# Altium integrated library WE-PDA_rev15a.intlib: 63 symbols
Pins are listed as number, name and electrical type; pins without a type are passive.

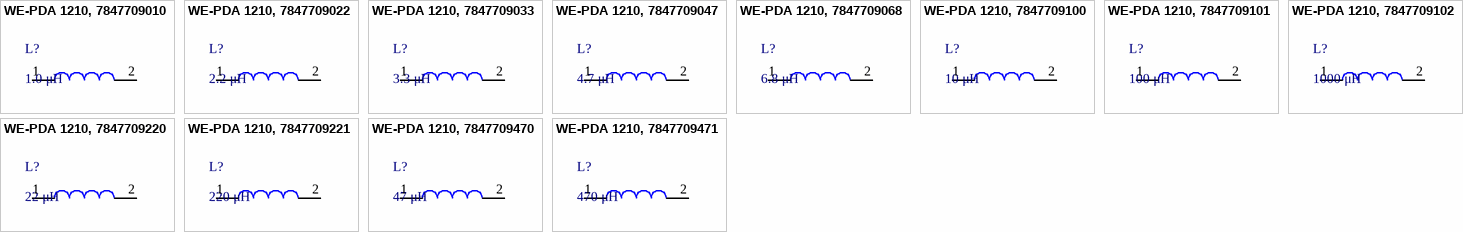
[diagram p0: symbols WE-PDA 1210, 7847709010 to WE-PDA 1210, 7847709471]

## WE-PDA 1210, 7847709010
designator L?, comment 1.0 μH
WE-PDA SMD Shielded Power InductorInductance = 1.0 μH; partNo: 7847709010; Manufacturer: Wurth Elektronik; Inductance: 1.0 μH; ComponentLink1Description: Manufacturer; ComponentLink1URL: http://www.we-online.de; Created by: Baojun Chen; Created Date: Nov.2015; ComponentLink2Description: Datasheet; ComponentLink2URL: http://katalog.we-online.de/pbs/datasheet/7847709010.pdf
footprint WE-PDA_1210
pins: 1, 2

## WE-PDA 1210, 7847709022
designator L?, comment 2.2 μH
WE-PDA SMD Shielded Power InductorInductance = 2.2 μH; partNo: 7847709022; Manufacturer: Wurth Elektronik; Inductance: 2.2 μH; ComponentLink1Description: Manufacturer; ComponentLink1URL: http://www.we-online.de; Created by: Baojun Chen; Created Date: Nov.2015; ComponentLink2Description: Datasheet; ComponentLink2URL: http://katalog.we-online.de/pbs/datasheet/7847709022.pdf
footprint WE-PDA_1210
pins: 1, 2

## WE-PDA 1210, 7847709033
designator L?, comment 3.3 μH
WE-PDA SMD Shielded Power InductorInductance = 3.3 μH; partNo: 7847709033; Manufacturer: Wurth Elektronik; Inductance: 3.3 μH; ComponentLink1Description: Manufacturer; ComponentLink1URL: http://www.we-online.de; Created by: Baojun Chen; Created Date: Nov.2015; ComponentLink2Description: Datasheet; ComponentLink2URL: http://katalog.we-online.de/pbs/datasheet/7847709033.pdf
footprint WE-PDA_1210
pins: 1, 2

## WE-PDA 1210, 7847709047
designator L?, comment 4.7 μH
WE-PDA SMD Shielded Power InductorInductance = 4.7 μH; partNo: 7847709047; Manufacturer: Wurth Elektronik; Inductance: 4.7 μH; ComponentLink1Description: Manufacturer; ComponentLink1URL: http://www.we-online.de; Created by: Baojun Chen; Created Date: Nov.2015; ComponentLink2Description: Datasheet; ComponentLink2URL: http://katalog.we-online.de/pbs/datasheet/7847709047.pdf
footprint WE-PDA_1210
pins: 1, 2

## WE-PDA 1210, 7847709068
designator L?, comment 6.8 μH
WE-PDA SMD Shielded Power InductorInductance = 6.8 μH; partNo: 7847709068; Manufacturer: Wurth Elektronik; Inductance: 6.8 μH; ComponentLink1Description: Manufacturer; ComponentLink1URL: http://www.we-online.de; Created by: Baojun Chen; Created Date: Nov.2015; ComponentLink2Description: Datasheet; ComponentLink2URL: http://katalog.we-online.de/pbs/datasheet/7847709068.pdf
footprint WE-PDA_1210
pins: 1, 2

## WE-PDA 1210, 7847709100
designator L?, comment 10 μH
WE-PDA SMD Shielded Power InductorInductance = 10 μH; partNo: 7847709100; Manufacturer: Wurth Elektronik; Inductance: 10 μH; ComponentLink1Description: Manufacturer; ComponentLink1URL: http://www.we-online.de; Created by: Baojun Chen; Created Date: Nov.2015; ComponentLink2Description: Datasheet; ComponentLink2URL: http://katalog.we-online.de/pbs/datasheet/7847709100.pdf
footprint WE-PDA_1210
pins: 1, 2

## WE-PDA 1210, 7847709101
designator L?, comment 100 μH
WE-PDA SMD Shielded Power InductorInductance = 100 μH; partNo: 7847709101; Manufacturer: Wurth Elektronik; Inductance: 100 μH; ComponentLink1Description: Manufacturer; ComponentLink1URL: http://www.we-online.de; Created by: Baojun Chen; Created Date: Nov.2015; ComponentLink2Description: Datasheet; ComponentLink2URL: http://katalog.we-online.de/pbs/datasheet/7847709101.pdf
footprint WE-PDA_1210
pins: 1, 2

## WE-PDA 1210, 7847709102
designator L?, comment 1000 μH
WE-PDA SMD Shielded Power InductorInductance = 1000 μH; partNo: 7847709102; Manufacturer: Wurth Elektronik; Inductance: 1000 μH; ComponentLink1Description: Manufacturer; ComponentLink1URL: http://www.we-online.de; Created by: Baojun Chen; Created Date: Nov.2015; ComponentLink2Description: Datasheet; ComponentLink2URL: http://katalog.we-online.de/pbs/datasheet/7847709102.pdf
footprint WE-PDA_1210
pins: 1, 2

## WE-PDA 1210, 7847709220
designator L?, comment 22 μH
WE-PDA SMD Shielded Power InductorInductance = 22 μH; partNo: 7847709220; Manufacturer: Wurth Elektronik; Inductance: 22 μH; ComponentLink1Description: Manufacturer; ComponentLink1URL: http://www.we-online.de; Created by: Baojun Chen; Created Date: Nov.2015; ComponentLink2Description: Datasheet; ComponentLink2URL: http://katalog.we-online.de/pbs/datasheet/7847709220.pdf
footprint WE-PDA_1210
pins: 1, 2

## WE-PDA 1210, 7847709221
designator L?, comment 220 μH
WE-PDA SMD Shielded Power InductorInductance = 220 μH; partNo: 7847709221; Manufacturer: Wurth Elektronik; Inductance: 220 μH; ComponentLink1Description: Manufacturer; ComponentLink1URL: http://www.we-online.de; Created by: Baojun Chen; Created Date: Nov.2015; ComponentLink2Description: Datasheet; ComponentLink2URL: http://katalog.we-online.de/pbs/datasheet/7847709221.pdf
footprint WE-PDA_1210
pins: 1, 2

## WE-PDA 1210, 7847709470
designator L?, comment 47 μH
WE-PDA SMD Shielded Power InductorInductance = 47 μH; partNo: 7847709470; Manufacturer: Wurth Elektronik; Inductance: 47 μH; ComponentLink1Description: Manufacturer; ComponentLink1URL: http://www.we-online.de; Created by: Baojun Chen; Created Date: Nov.2015; ComponentLink2Description: Datasheet; ComponentLink2URL: http://katalog.we-online.de/pbs/datasheet/7847709470.pdf
footprint WE-PDA_1210
pins: 1, 2

## WE-PDA 1210, 7847709471
designator L?, comment 470 μH
WE-PDA SMD Shielded Power InductorInductance = 470 μH; partNo: 7847709471; Manufacturer: Wurth Elektronik; Inductance: 470 μH; ComponentLink1Description: Manufacturer; ComponentLink1URL: http://www.we-online.de; Created by: Baojun Chen; Created Date: Nov.2015; ComponentLink2Description: Datasheet; ComponentLink2URL: http://katalog.we-online.de/pbs/datasheet/7847709471.pdf
footprint WE-PDA_1210
pins: 1, 2


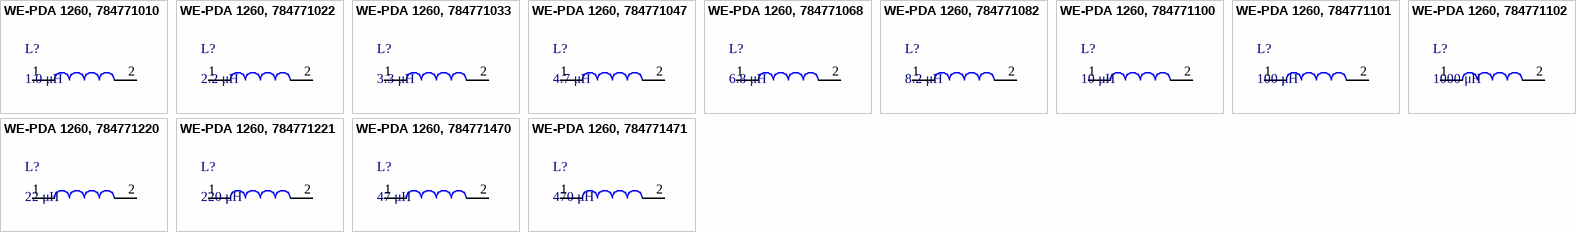
[diagram p1: symbols WE-PDA 1260, 784771010 to WE-PDA 1260, 784771471]

## WE-PDA 1260, 784771010
designator L?, comment 1.0 μH
WE-PDA SMD Shielded Power InductorInductance = 1.0 μH; partNo: 784771010; Manufacturer: Wurth Elektronik; Inductance: 1.0 μH; ComponentLink1Description: Manufacturer; ComponentLink1URL: http://www.we-online.de; Created by: Baojun Chen; Created Date: Nov.2015; ComponentLink2Description: Datasheet; ComponentLink2URL: http://katalog.we-online.de/pbs/datasheet/784771010.pdf
footprint WE-PDA_1260
pins: 1, 2

## WE-PDA 1260, 784771022
designator L?, comment 2.2 μH
WE-PDA SMD Shielded Power InductorInductance = 2.2 μH; partNo: 784771022; Manufacturer: Wurth Elektronik; Inductance: 2.2 μH; ComponentLink1Description: Manufacturer; ComponentLink1URL: http://www.we-online.de; Created by: Baojun Chen; Created Date: Nov.2015; ComponentLink2Description: Datasheet; ComponentLink2URL: http://katalog.we-online.de/pbs/datasheet/784771022.pdf
footprint WE-PDA_1260
pins: 1, 2

## WE-PDA 1260, 784771033
designator L?, comment 3.3 μH
WE-PDA SMD Shielded Power InductorInductance = 3.3 μH; partNo: 784771033; Manufacturer: Wurth Elektronik; Inductance: 3.3 μH; ComponentLink1Description: Manufacturer; ComponentLink1URL: http://www.we-online.de; Created by: Baojun Chen; Created Date: Nov.2015; ComponentLink2Description: Datasheet; ComponentLink2URL: http://katalog.we-online.de/pbs/datasheet/784771033.pdf
footprint WE-PDA_1260
pins: 1, 2

## WE-PDA 1260, 784771047
designator L?, comment 4.7 μH
WE-PDA SMD Shielded Power InductorInductance = 4.7 μH; partNo: 784771047; Manufacturer: Wurth Elektronik; Inductance: 4.7 μH; ComponentLink1Description: Manufacturer; ComponentLink1URL: http://www.we-online.de; Created by: Baojun Chen; Created Date: Nov.2015; ComponentLink2Description: Datasheet; ComponentLink2URL: http://katalog.we-online.de/pbs/datasheet/784771047.pdf
footprint WE-PDA_1260
pins: 1, 2

## WE-PDA 1260, 784771068
designator L?, comment 6.8 μH
WE-PDA SMD Shielded Power InductorInductance = 6.8 μH; partNo: 784771068; Manufacturer: Wurth Elektronik; Inductance: 6.8 μH; ComponentLink1Description: Manufacturer; ComponentLink1URL: http://www.we-online.de; Created by: Baojun Chen; Created Date: Nov.2015; ComponentLink2Description: Datasheet; ComponentLink2URL: http://katalog.we-online.de/pbs/datasheet/784771068.pdf
footprint WE-PDA_1260
pins: 1, 2

## WE-PDA 1260, 784771082
designator L?, comment 8.2 μH
WE-PDA SMD Shielded Power InductorInductance = 8.2 μH; partNo: 784771082; Manufacturer: Wurth Elektronik; Inductance: 8.2 μH; ComponentLink1Description: Manufacturer; ComponentLink1URL: http://www.we-online.de; Created by: Baojun Chen; Created Date: Nov.2015; ComponentLink2Description: Datasheet; ComponentLink2URL: http://katalog.we-online.de/pbs/datasheet/784771082.pdf
footprint WE-PDA_1260
pins: 1, 2

## WE-PDA 1260, 784771100
designator L?, comment 10 μH
WE-PDA SMD Shielded Power InductorInductance = 10 μH; partNo: 784771100; Manufacturer: Wurth Elektronik; Inductance: 10 μH; ComponentLink1Description: Manufacturer; ComponentLink1URL: http://www.we-online.de; Created by: Baojun Chen; Created Date: Nov.2015; ComponentLink2Description: Datasheet; ComponentLink2URL: http://katalog.we-online.de/pbs/datasheet/784771100.pdf
footprint WE-PDA_1260
pins: 1, 2

## WE-PDA 1260, 784771101
designator L?, comment 100 μH
WE-PDA SMD Shielded Power InductorInductance = 100 μH; partNo: 784771101; Manufacturer: Wurth Elektronik; Inductance: 100 μH; ComponentLink1Description: Manufacturer; ComponentLink1URL: http://www.we-online.de; Created by: Baojun Chen; Created Date: Nov.2015; ComponentLink2Description: Datasheet; ComponentLink2URL: http://katalog.we-online.de/pbs/datasheet/784771101.pdf
footprint WE-PDA_1260
pins: 1, 2

## WE-PDA 1260, 784771102
designator L?, comment 1000 μH
WE-PDA SMD Shielded Power InductorInductance = 1000 μH; partNo: 784771102; Manufacturer: Wurth Elektronik; Inductance: 1000 μH; ComponentLink1Description: Manufacturer; ComponentLink1URL: http://www.we-online.de; Created by: Baojun Chen; Created Date: Nov.2015; ComponentLink2Description: Datasheet; ComponentLink2URL: http://katalog.we-online.de/pbs/datasheet/784771102.pdf
footprint WE-PDA_1260
pins: 1, 2

## WE-PDA 1260, 784771220
designator L?, comment 22 μH
WE-PDA SMD Shielded Power InductorInductance = 22 μH; partNo: 784771220; Manufacturer: Wurth Elektronik; Inductance: 22 μH; ComponentLink1Description: Manufacturer; ComponentLink1URL: http://www.we-online.de; Created by: Baojun Chen; Created Date: Nov.2015; ComponentLink2Description: Datasheet; ComponentLink2URL: http://katalog.we-online.de/pbs/datasheet/784771220.pdf
footprint WE-PDA_1260
pins: 1, 2

## WE-PDA 1260, 784771221
designator L?, comment 220 μH
WE-PDA SMD Shielded Power InductorInductance = 220 μH; partNo: 784771221; Manufacturer: Wurth Elektronik; Inductance: 220 μH; ComponentLink1Description: Manufacturer; ComponentLink1URL: http://www.we-online.de; Created by: Baojun Chen; Created Date: Nov.2015; ComponentLink2Description: Datasheet; ComponentLink2URL: http://katalog.we-online.de/pbs/datasheet/784771221.pdf
footprint WE-PDA_1260
pins: 1, 2

## WE-PDA 1260, 784771470
designator L?, comment 47 μH
WE-PDA SMD Shielded Power InductorInductance = 47 μH; partNo: 784771470; Manufacturer: Wurth Elektronik; Inductance: 47 μH; ComponentLink1Description: Manufacturer; ComponentLink1URL: http://www.we-online.de; Created by: Baojun Chen; Created Date: Nov.2015; ComponentLink2Description: Datasheet; ComponentLink2URL: http://katalog.we-online.de/pbs/datasheet/784771470.pdf
footprint WE-PDA_1260
pins: 1, 2

## WE-PDA 1260, 784771471
designator L?, comment 470 μH
WE-PDA SMD Shielded Power InductorInductance = 470 μH; partNo: 784771471; Manufacturer: Wurth Elektronik; Inductance: 470 μH; ComponentLink1Description: Manufacturer; ComponentLink1URL: http://www.we-online.de; Created by: Baojun Chen; Created Date: Nov.2015; ComponentLink2Description: Datasheet; ComponentLink2URL: http://katalog.we-online.de/pbs/datasheet/784771471.pdf
footprint WE-PDA_1260
pins: 1, 2


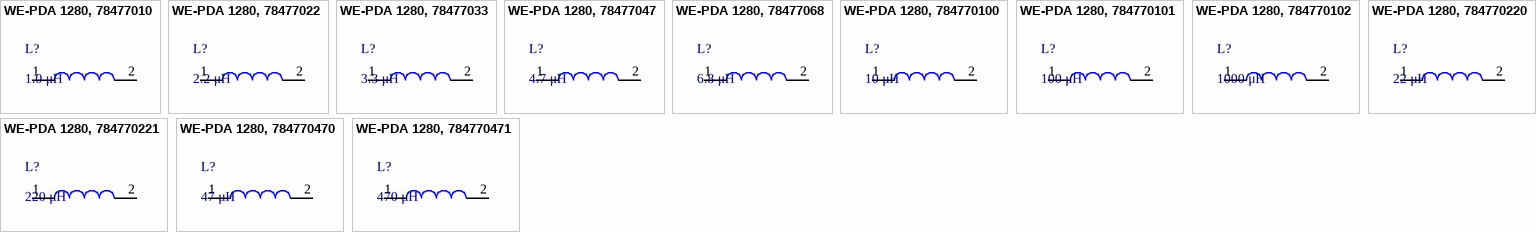
[diagram p2: symbols WE-PDA 1280, 78477010 to WE-PDA 1280, 784770471]

## WE-PDA 1280, 78477010
designator L?, comment 1.0 μH
WE-PDA SMD Shielded Power Inductor ,Inductance = 1.0 μH; partNo: 78477010; Manufacturer: Wurth Elektronik; Inductance: 1.0 μH; ComponentLink1Description: Manufacturer; ComponentLink1URL: http://www.we-online.de; Created by: Baojun Chen; Created Date: Nov.2015; ComponentLink2Description: Datasheet; ComponentLink2URL: http://katalog.we-online.de/pbs/datasheet/78477010.pdf
footprint WE-PDA_1280
pins: 1, 2

## WE-PDA 1280, 78477022
designator L?, comment 2.2 μH
WE-PDA SMD Shielded Power InductorInductance = 2.2 μH; partNo: 78477022; Manufacturer: Wurth Elektronik; Inductance: 2.2 μH; ComponentLink1Description: Manufacturer; ComponentLink1URL: http://www.we-online.de; Created by: Baojun Chen; Created Date: Nov.2015; ComponentLink2Description: Datasheet; ComponentLink2URL: http://katalog.we-online.de/pbs/datasheet/78477022.pdf
footprint WE-PDA_1280
pins: 1, 2

## WE-PDA 1280, 78477033
designator L?, comment 3.3 μH
WE-PDA SMD Shielded Power InductorInductance = 3.3 μH; partNo: 78477033; Manufacturer: Wurth Elektronik; Inductance: 3.3 μH; ComponentLink1Description: Manufacturer; ComponentLink1URL: http://www.we-online.de; Created by: Baojun Chen; Created Date: Nov.2015; ComponentLink2Description: Datasheet; ComponentLink2URL: http://katalog.we-online.de/pbs/datasheet/78477033.pdf
footprint WE-PDA_1280
pins: 1, 2

## WE-PDA 1280, 78477047
designator L?, comment 4.7 μH
WE-PDA SMD Shielded Power InductorInductance = 4.7 μH; partNo: 78477047; Manufacturer: Wurth Elektronik; Inductance: 4.7 μH; ComponentLink1Description: Manufacturer; ComponentLink1URL: http://www.we-online.de; Created by: Baojun Chen; Created Date: Nov.2015; ComponentLink2Description: Datasheet; ComponentLink2URL: http://katalog.we-online.de/pbs/datasheet/78477047.pdf
footprint WE-PDA_1280
pins: 1, 2

## WE-PDA 1280, 78477068
designator L?, comment 6.8 μH
WE-PDA SMD Shielded Power InductorInductance = 6.8 μH; partNo: 78477068; Manufacturer: Wurth Elektronik; Inductance: 6.8 μH; ComponentLink1Description: Manufacturer; ComponentLink1URL: http://www.we-online.de; Created by: Baojun Chen; Created Date: Nov.2015; ComponentLink2Description: Datasheet; ComponentLink2URL: http://katalog.we-online.de/pbs/datasheet/78477068.pdf
footprint WE-PDA_1280
pins: 1, 2

## WE-PDA 1280, 784770100
designator L?, comment 10 μH
WE-PDA SMD Shielded Power InductorInductance = 10 μH; partNo: 784770100; Manufacturer: Wurth Elektronik; Inductance: 10 μH; ComponentLink1Description: Manufacturer; ComponentLink1URL: http://www.we-online.de; Created by: Baojun Chen; Created Date: Nov.2015; ComponentLink2Description: Datasheet; ComponentLink2URL: http://katalog.we-online.de/pbs/datasheet/784770100.pdf
footprint WE-PDA_1280
pins: 1, 2

## WE-PDA 1280, 784770101
designator L?, comment 100 μH
WE-PDA SMD Shielded Power InductorInductance = 100 μH; partNo: 784770101; Manufacturer: Wurth Elektronik; Inductance: 100 μH; ComponentLink1Description: Manufacturer; ComponentLink1URL: http://www.we-online.de; Created by: Baojun Chen; Created Date: Nov.2015; ComponentLink2Description: Datasheet; ComponentLink2URL: http://katalog.we-online.de/pbs/datasheet/784770101.pdf
footprint WE-PDA_1280
pins: 1, 2

## WE-PDA 1280, 784770102
designator L?, comment 1000 μH
WE-PDA SMD Shielded Power InductorInductance = 1000 μH; partNo: 784770102; Manufacturer: Wurth Elektronik; Inductance: 1000 μH; ComponentLink1Description: Manufacturer; ComponentLink1URL: http://www.we-online.de; Created by: Baojun Chen; Created Date: Nov.2015; ComponentLink2Description: Datasheet; ComponentLink2URL: http://katalog.we-online.de/pbs/datasheet/784770102.pdf
footprint WE-PDA_1280
pins: 1, 2

## WE-PDA 1280, 784770220
designator L?, comment 22 μH
WE-PDA SMD Shielded Power InductorInductance = 22 μH; partNo: 784770220; Manufacturer: Wurth Elektronik; Inductance: 22 μH; ComponentLink1Description: Manufacturer; ComponentLink1URL: http://www.we-online.de; Created by: Baojun Chen; Created Date: Nov.2015; ComponentLink2Description: Datasheet; ComponentLink2URL: http://katalog.we-online.de/pbs/datasheet/784770220.pdf
footprint WE-PDA_1280
pins: 1, 2

## WE-PDA 1280, 784770221
designator L?, comment 220 μH
WE-PDA SMD Shielded Power InductorInductance = 220 μH; partNo: 784770221; Manufacturer: Wurth Elektronik; Inductance: 220 μH; ComponentLink1Description: Manufacturer; ComponentLink1URL: http://www.we-online.de; Created by: Baojun Chen; Created Date: Nov.2015; ComponentLink2Description: Datasheet; ComponentLink2URL: http://katalog.we-online.de/pbs/datasheet/784770221.pdf
footprint WE-PDA_1280
pins: 1, 2

## WE-PDA 1280, 784770470
designator L?, comment 47 μH
WE-PDA SMD Shielded Power InductorInductance = 47 μH; partNo: 784770470; Manufacturer: Wurth Elektronik; Inductance: 47 μH; ComponentLink1Description: Manufacturer; ComponentLink1URL: http://www.we-online.de; Created by: Baojun Chen; Created Date: Nov.2015; ComponentLink2Description: Datasheet; ComponentLink2URL: http://katalog.we-online.de/pbs/datasheet/784770470.pdf
footprint WE-PDA_1280
pins: 1, 2

## WE-PDA 1280, 784770471
designator L?, comment 470 μH
WE-PDA SMD Shielded Power InductorInductance = 470 μH; partNo: 784770471; Manufacturer: Wurth Elektronik; Inductance: 470 μH; ComponentLink1Description: Manufacturer; ComponentLink1URL: http://www.we-online.de; Created by: Baojun Chen; Created Date: Nov.2015; ComponentLink2Description: Datasheet; ComponentLink2URL: http://katalog.we-online.de/pbs/datasheet/784770471.pdf
footprint WE-PDA_1280
pins: 1, 2


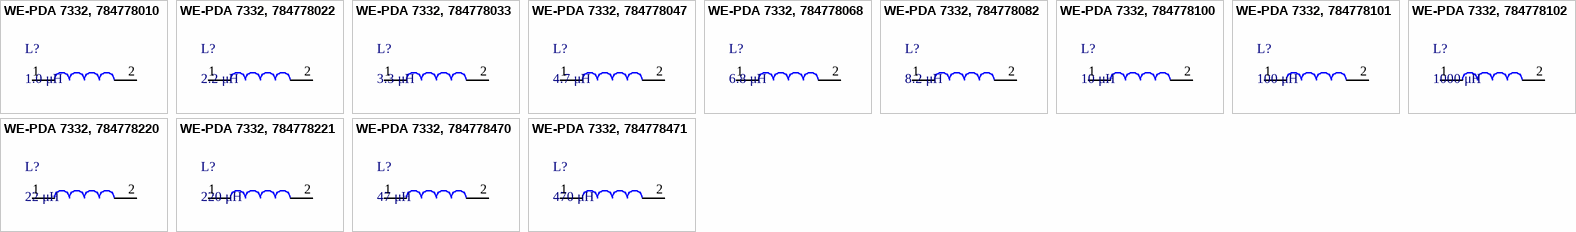
[diagram p3: symbols WE-PDA 7332, 784778010 to WE-PDA 7332, 784778471]

## WE-PDA 7332, 784778010
designator L?, comment 1.0 μH
WE-PDA SMD Shielded Power InductorInductance = 1.0 μH; partNo: 784778010; Manufacturer: Wurth Elektronik; Inductance: 1.0 μH; ComponentLink1Description: Manufacturer; ComponentLink1URL: http://www.we-online.de; Created by: Baojun Chen; Created Date: Nov.2015; ComponentLink2Description: Datasheet; ComponentLink2URL: http://katalog.we-online.de/pbs/datasheet/784778010.pdf
footprint WE-PDA_7332
pins: 1, 2

## WE-PDA 7332, 784778022
designator L?, comment 2.2 μH
WE-PDA SMD Shielded Power InductorInductance = 2.2 μH; partNo: 784778022; Manufacturer: Wurth Elektronik; Inductance: 2.2 μH; ComponentLink1Description: Manufacturer; ComponentLink1URL: http://www.we-online.de; Created by: Baojun Chen; Created Date: Nov.2015; ComponentLink2Description: Datasheet; ComponentLink2URL: http://katalog.we-online.de/pbs/datasheet/784778022.pdf
footprint WE-PDA_7332
pins: 1, 2

## WE-PDA 7332, 784778033
designator L?, comment 3.3 μH
WE-PDA SMD Shielded Power InductorInductance = 3.3 μH; partNo: 784778033; Manufacturer: Wurth Elektronik; Inductance: 3.3 μH; ComponentLink1Description: Manufacturer; ComponentLink1URL: http://www.we-online.de; Created by: Baojun Chen; Created Date: Nov.2015; ComponentLink2Description: Datasheet; ComponentLink2URL: http://katalog.we-online.de/pbs/datasheet/784778033.pdf
footprint WE-PDA_7332
pins: 1, 2

## WE-PDA 7332, 784778047
designator L?, comment 4.7 μH
WE-PDA SMD Shielded Power InductorInductance = 4.7 μH; partNo: 784778047; Manufacturer: Wurth Elektronik; Inductance: 4.7 μH; ComponentLink1Description: Manufacturer; ComponentLink1URL: http://www.we-online.de; Created by: Baojun Chen; Created Date: Nov.2015; ComponentLink2Description: Datasheet; ComponentLink2URL: http://katalog.we-online.de/pbs/datasheet/784778047.pdf
footprint WE-PDA_7332
pins: 1, 2

## WE-PDA 7332, 784778068
designator L?, comment 6.8 μH
WE-PDA SMD Shielded Power InductorInductance = 6.8 μH; partNo: 784778068; Manufacturer: Wurth Elektronik; Inductance: 6.8 μH; ComponentLink1Description: Manufacturer; ComponentLink1URL: http://www.we-online.de; Created by: Baojun Chen; Created Date: Nov.2015; ComponentLink2Description: Datasheet; ComponentLink2URL: http://katalog.we-online.de/pbs/datasheet/784778068.pdf
footprint WE-PDA_7332
pins: 1, 2

## WE-PDA 7332, 784778082
designator L?, comment 8.2 μH
WE-PDA SMD Shielded Power InductorInductance = 8.2 μH; partNo: 784778082; Manufacturer: Wurth Elektronik; Inductance: 8.2 μH; ComponentLink1Description: Manufacturer; ComponentLink1URL: http://www.we-online.de; Created by: Baojun Chen; Created Date: Nov.2015; ComponentLink2Description: Datasheet; ComponentLink2URL: http://katalog.we-online.de/pbs/datasheet/784778082.pdf
footprint WE-PDA_7332
pins: 1, 2

## WE-PDA 7332, 784778100
designator L?, comment 10 μH
WE-PDA SMD Shielded Power InductorInductance = 10 μH; partNo: 784778100; Manufacturer: Wurth Elektronik; Inductance: 10 μH; ComponentLink1Description: Manufacturer; ComponentLink1URL: http://www.we-online.de; Created by: Baojun Chen; Created Date: Nov.2015; ComponentLink2Description: Datasheet; ComponentLink2URL: http://katalog.we-online.de/pbs/datasheet/784778100.pdf
footprint WE-PDA_7332
pins: 1, 2

## WE-PDA 7332, 784778101
designator L?, comment 100 μH
WE-PDA SMD Shielded Power InductorInductance = 100 μH; partNo: 784778101; Manufacturer: Wurth Elektronik; Inductance: 100 μH; ComponentLink1Description: Manufacturer; ComponentLink1URL: http://www.we-online.de; Created by: Baojun Chen; Created Date: Nov.2015; ComponentLink2Description: Datasheet; ComponentLink2URL: http://katalog.we-online.de/pbs/datasheet/784778101.pdf
footprint WE-PDA_7332
pins: 1, 2

## WE-PDA 7332, 784778102
designator L?, comment 1000 μH
WE-PDA SMD Shielded Power InductorInductance = 1000 μH; partNo: 784778102; Manufacturer: Wurth Elektronik; Inductance: 1000 μH; ComponentLink1Description: Manufacturer; ComponentLink1URL: http://www.we-online.de; Created by: Baojun Chen; Created Date: Nov.2015; ComponentLink2Description: Datasheet; ComponentLink2URL: http://katalog.we-online.de/pbs/datasheet/784778102.pdf
footprint WE-PDA_7332
pins: 1, 2

## WE-PDA 7332, 784778220
designator L?, comment 22 μH
WE-PDA SMD Shielded Power InductorInductance = 22 μH; partNo: 784778220; Manufacturer: Wurth Elektronik; Inductance: 22 μH; ComponentLink1Description: Manufacturer; ComponentLink1URL: http://www.we-online.de; Created by: Baojun Chen; Created Date: Nov.2015; ComponentLink2Description: Datasheet; ComponentLink2URL: http://katalog.we-online.de/pbs/datasheet/784778220.pdf
footprint WE-PDA_7332
pins: 1, 2

## WE-PDA 7332, 784778221
designator L?, comment 220 μH
WE-PDA SMD Shielded Power InductorInductance = 220 μH; partNo: 784778221; Manufacturer: Wurth Elektronik; Inductance: 220 μH; ComponentLink1Description: Manufacturer; ComponentLink1URL: http://www.we-online.de; Created by: Baojun Chen; Created Date: Nov.2015; ComponentLink2Description: Datasheet; ComponentLink2URL: http://katalog.we-online.de/pbs/datasheet/784778221.pdf
footprint WE-PDA_7332
pins: 1, 2

## WE-PDA 7332, 784778470
designator L?, comment 47 μH
WE-PDA SMD Shielded Power InductorInductance = 47 μH; partNo: 784778470; Manufacturer: Wurth Elektronik; Inductance: 47 μH; ComponentLink1Description: Manufacturer; ComponentLink1URL: http://www.we-online.de; Created by: Baojun Chen; Created Date: Nov.2015; ComponentLink2Description: Datasheet; ComponentLink2URL: http://katalog.we-online.de/pbs/datasheet/784778470.pdf
footprint WE-PDA_7332
pins: 1, 2

## WE-PDA 7332, 784778471
designator L?, comment 470 μH
WE-PDA SMD Shielded Power InductorInductance = 470 μH; partNo: 784778471; Manufacturer: Wurth Elektronik; Inductance: 470 μH; ComponentLink1Description: Manufacturer; ComponentLink1URL: http://www.we-online.de; Created by: Baojun Chen; Created Date: Nov.2015; ComponentLink2Description: Datasheet; ComponentLink2URL: http://katalog.we-online.de/pbs/datasheet/784778471.pdf
footprint WE-PDA_7332
pins: 1, 2


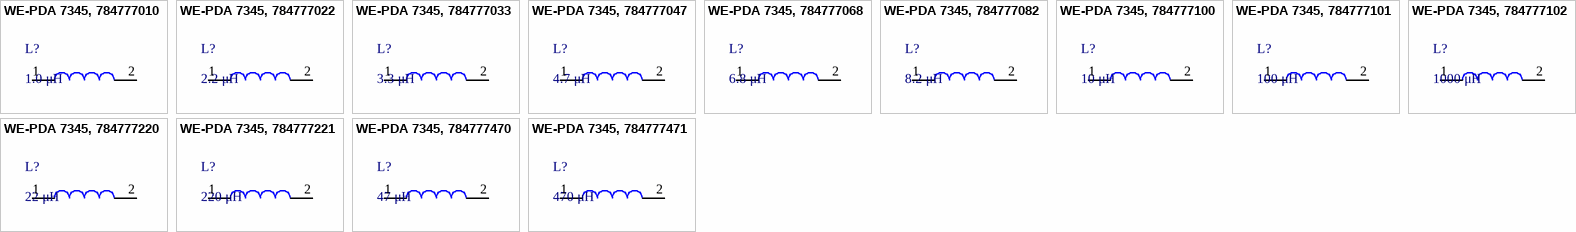
[diagram p4: symbols WE-PDA 7345, 784777010 to WE-PDA 7345, 784777471]

## WE-PDA 7345, 784777010
designator L?, comment 1.0 μH
WE-PDA SMD Shielded Power InductorInductance = 1.0 μH; partNo: 784777010; Manufacturer: Wurth Elektronik; Inductance: 1.0 μH; ComponentLink1Description: Manufacturer; ComponentLink1URL: http://www.we-online.de; Created by: Baojun Chen; Created Date: Nov.2015; ComponentLink2Description: Datasheet; ComponentLink2URL: http://katalog.we-online.de/pbs/datasheet/784777010.pdf
footprint WE-PDA_7345
pins: 1, 2

## WE-PDA 7345, 784777022
designator L?, comment 2.2 μH
WE-PDA SMD Shielded Power InductorInductance = 2.2 μH; partNo: 784777022; Manufacturer: Wurth Elektronik; Inductance: 2.2 μH; ComponentLink1Description: Manufacturer; ComponentLink1URL: http://www.we-online.de; Created by: Baojun Chen; Created Date: Nov.2015; ComponentLink2Description: Datasheet; ComponentLink2URL: http://katalog.we-online.de/pbs/datasheet/784777022.pdf
footprint WE-PDA_7345
pins: 1, 2

## WE-PDA 7345, 784777033
designator L?, comment 3.3 μH
WE-PDA SMD Shielded Power InductorInductance = 3.3 μH; partNo: 784777033; Manufacturer: Wurth Elektronik; Inductance: 3.3 μH; ComponentLink1Description: Manufacturer; ComponentLink1URL: http://www.we-online.de; Created by: Baojun Chen; Created Date: Nov.2015; ComponentLink2Description: Datasheet; ComponentLink2URL: http://katalog.we-online.de/pbs/datasheet/784777033.pdf
footprint WE-PDA_7345
pins: 1, 2

## WE-PDA 7345, 784777047
designator L?, comment 4.7 μH
WE-PDA SMD Shielded Power InductorInductance = 4.7 μH; partNo: 784777047; Manufacturer: Wurth Elektronik; Inductance: 4.7 μH; ComponentLink1Description: Manufacturer; ComponentLink1URL: http://www.we-online.de; Created by: Baojun Chen; Created Date: Nov.2015; ComponentLink2Description: Datasheet; ComponentLink2URL: http://katalog.we-online.de/pbs/datasheet/784777047.pdf
footprint WE-PDA_7345
pins: 1, 2

## WE-PDA 7345, 784777068
designator L?, comment 6.8 μH
WE-PDA SMD Shielded Power InductorInductance = 6.8 μH; partNo: 784777068; Manufacturer: Wurth Elektronik; Inductance: 6.8 μH; ComponentLink1Description: Manufacturer; ComponentLink1URL: http://www.we-online.de; Created by: Baojun Chen; Created Date: Nov.2015; ComponentLink2Description: Datasheet; ComponentLink2URL: http://katalog.we-online.de/pbs/datasheet/784777068.pdf
footprint WE-PDA_7345
pins: 1, 2

## WE-PDA 7345, 784777082
designator L?, comment 8.2 μH
WE-PDA SMD Shielded Power InductorInductance = 8.2 μH; partNo: 784777082; Manufacturer: Wurth Elektronik; Inductance: 8.2 μH; ComponentLink1Description: Manufacturer; ComponentLink1URL: http://www.we-online.de; Created by: Baojun Chen; Created Date: Nov.2015; ComponentLink2Description: Datasheet; ComponentLink2URL: http://katalog.we-online.de/pbs/datasheet/784777082.pdf
footprint WE-PDA_7345
pins: 1, 2

## WE-PDA 7345, 784777100
designator L?, comment 10 μH
WE-PDA SMD Shielded Power InductorInductance = 10 μH; partNo: 784777100; Manufacturer: Wurth Elektronik; Inductance: 10 μH; ComponentLink1Description: Manufacturer; ComponentLink1URL: http://www.we-online.de; Created by: Baojun Chen; Created Date: Nov.2015; ComponentLink2Description: Datasheet; ComponentLink2URL: http://katalog.we-online.de/pbs/datasheet/784777100.pdf
footprint WE-PDA_7345
pins: 1, 2

## WE-PDA 7345, 784777101
designator L?, comment 100 μH
WE-PDA SMD Shielded Power InductorInductance = 100 μH; partNo: 784777101; Manufacturer: Wurth Elektronik; Inductance: 100 μH; ComponentLink1Description: Manufacturer; ComponentLink1URL: http://www.we-online.de; Created by: Baojun Chen; Created Date: Nov.2015; ComponentLink2Description: Datasheet; ComponentLink2URL: http://katalog.we-online.de/pbs/datasheet/784777101.pdf
footprint WE-PDA_7345
pins: 1, 2

## WE-PDA 7345, 784777102
designator L?, comment 1000 μH
WE-PDA SMD Shielded Power InductorInductance = 1000 μH; partNo: 784777102; Manufacturer: Wurth Elektronik; Inductance: 1000 μH; ComponentLink1Description: Manufacturer; ComponentLink1URL: http://www.we-online.de; Created by: Baojun Chen; Created Date: Nov.2015; ComponentLink2Description: Datasheet; ComponentLink2URL: http://katalog.we-online.de/pbs/datasheet/784777102.pdf
footprint WE-PDA_7345
pins: 1, 2

## WE-PDA 7345, 784777220
designator L?, comment 22 μH
WE-PDA SMD Shielded Power InductorInductance = 22 μH; partNo: 784777220; Manufacturer: Wurth Elektronik; Inductance: 22 μH; ComponentLink1Description: Manufacturer; ComponentLink1URL: http://www.we-online.de; Created by: Baojun Chen; Created Date: Nov.2015; ComponentLink2Description: Datasheet; ComponentLink2URL: http://katalog.we-online.de/pbs/datasheet/784777220.pdf
footprint WE-PDA_7345
pins: 1, 2

## WE-PDA 7345, 784777221
designator L?, comment 220 μH
WE-PDA SMD Shielded Power InductorInductance = 220 μH; partNo: 784777221; Manufacturer: Wurth Elektronik; Inductance: 220 μH; ComponentLink1Description: Manufacturer; ComponentLink1URL: http://www.we-online.de; Created by: Baojun Chen; Created Date: Nov.2015; ComponentLink2Description: Datasheet; ComponentLink2URL: http://katalog.we-online.de/pbs/datasheet/784777221.pdf
footprint WE-PDA_7345
pins: 1, 2

## WE-PDA 7345, 784777470
designator L?, comment 47 μH
WE-PDA SMD Shielded Power InductorInductance = 47 μH; partNo: 784777470; Manufacturer: Wurth Elektronik; Inductance: 47 μH; ComponentLink1Description: Manufacturer; ComponentLink1URL: http://www.we-online.de; Created by: Baojun Chen; Created Date: Nov.2015; ComponentLink2Description: Datasheet; ComponentLink2URL: http://katalog.we-online.de/pbs/datasheet/784777470.pdf
footprint WE-PDA_7345
pins: 1, 2

## WE-PDA 7345, 784777471
designator L?, comment 470 μH
WE-PDA SMD Shielded Power InductorInductance = 470 μH; partNo: 784777471; Manufacturer: Wurth Elektronik; Inductance: 470 μH; ComponentLink1Description: Manufacturer; ComponentLink1URL: http://www.we-online.de; Created by: Baojun Chen; Created Date: Nov.2015; ComponentLink2Description: Datasheet; ComponentLink2URL: http://katalog.we-online.de/pbs/datasheet/784777471.pdf
footprint WE-PDA_7345
pins: 1, 2